# Altium footprint library Cap1.PcbLib: 7 footprints
Each footprint in its own frame and in the unit in brackets; x right, y up, seen from the top. Pads: shape width x height; smd on the part's side, far side on the other; paste and mask are expansions set on the pad; w line width, h text height; cw(c..) or ccw(c..) is an arc to the next point about the centre after c.
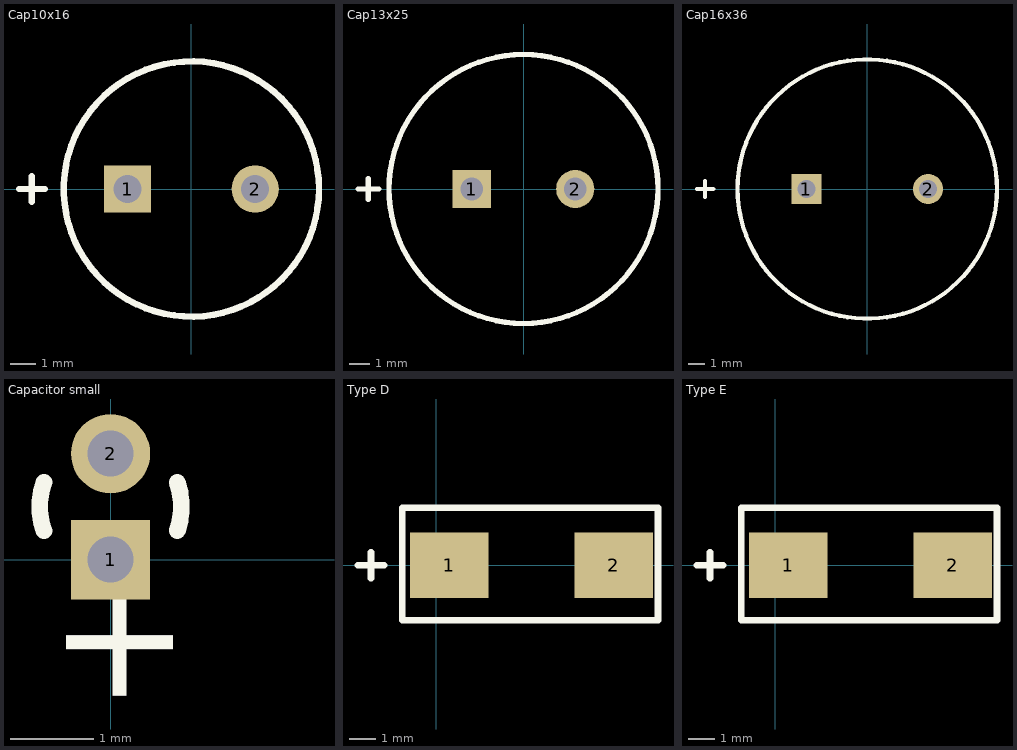
[diagram p0: the footprints below, top view; thin cyan lines are the x and y axes]

## Cap10x16 [mm]
pads (2):
  rect 1.85x1.85 hole 1.1: 1(-2.5,0)
  round 1.85 hole 1.1: 2(2.5,0)
Top Overlay:
  circle w0.254: c0,0 r5
  lines w0.254: -6.75,0 -5.75,0 ; -6.25,-0.5 -6.25,0.5
3D body: height 16, standoff 0, extent -4.961,-4.99 5,4.99

## Cap13x25 [mm]
pads (2):
  rect 1.85x1.85 hole 1.1: 1(-2.5,0)
  round 1.85 hole 1.1: 2(2.5,0)
Top Overlay:
  circle w0.254: c0,0 r6.5
  lines w0.254: -8,0 -7,0 ; -7.5,-0.5 -7.5,0.5
3D body: height 25, standoff 0, extent -6.474,-6.5 6.474,6.474

## Cap16x36 [mm]
pads (2):
  rect 1.85x1.85 hole 1.1: 1(-3.75,0)
  round 1.85 hole 1.1: 2(3.75,0)
Top Overlay:
  circle w0.254: c0,0 r8
  lines w0.254: -10.5,0 -9.5,0 ; -10,-0.5 -10,0.5
3D body: height 36, standoff 0, extent -7.968,-7.968 7.968,8

## Capacitor small [mm]
pads (2):
  rect 0.95x0.95 hole 0.55: 1(0,0)
  round 0.95 hole 0.55: 2(0,1.27)
Top Overlay:
  lines w0.2: -0.799,0.344 cw(c0,0.635) -0.799,0.926 ; 0.799,0.344 ccw(c0,0.635) 0.799,0.926
  text "+" at 0.75,-1.85 h1.5
3D body: height 4.06, standoff 0.25, extent -1.008,-0.377 1.016,1.651

## PCBComponent_1 [mm]

## Type D [mm] "Tantal capacitor Type D"
pads (2):
  rect 3x2.5 smd: 1(0.5,0) 2(6.8,0)
Top Overlay:
  lines w0.254: -3,0 -2,0 ; -2.5,-0.5 -2.5,0.5 ; -1.3,-2.1 -1.3,2.2 8.5,2.2 8.5,-2.1 -1.3,-2.1
3D body: height 2.8, standoff 0, extent 0,-2.15 7.3,2.15

## Type E [mm] "Tantal capacitor"
pads (2):
  rect 3x2.5 smd: 1(0.5,0) 2(6.8,0)
Top Overlay:
  lines w0.254: -3,0 -2,0 ; -2.5,-0.5 -2.5,0.5 ; -1.3,-2.1 -1.3,2.2 8.5,2.2 8.5,-2.1 -1.3,-2.1
3D body: height 4, standoff 0, extent 0,-2.15 7.3,2.15